# Altium schematic symbol library THD Connectors.SchLib: 115 symbols
Pins are listed as number, name and electrical type; pins without a type are passive.

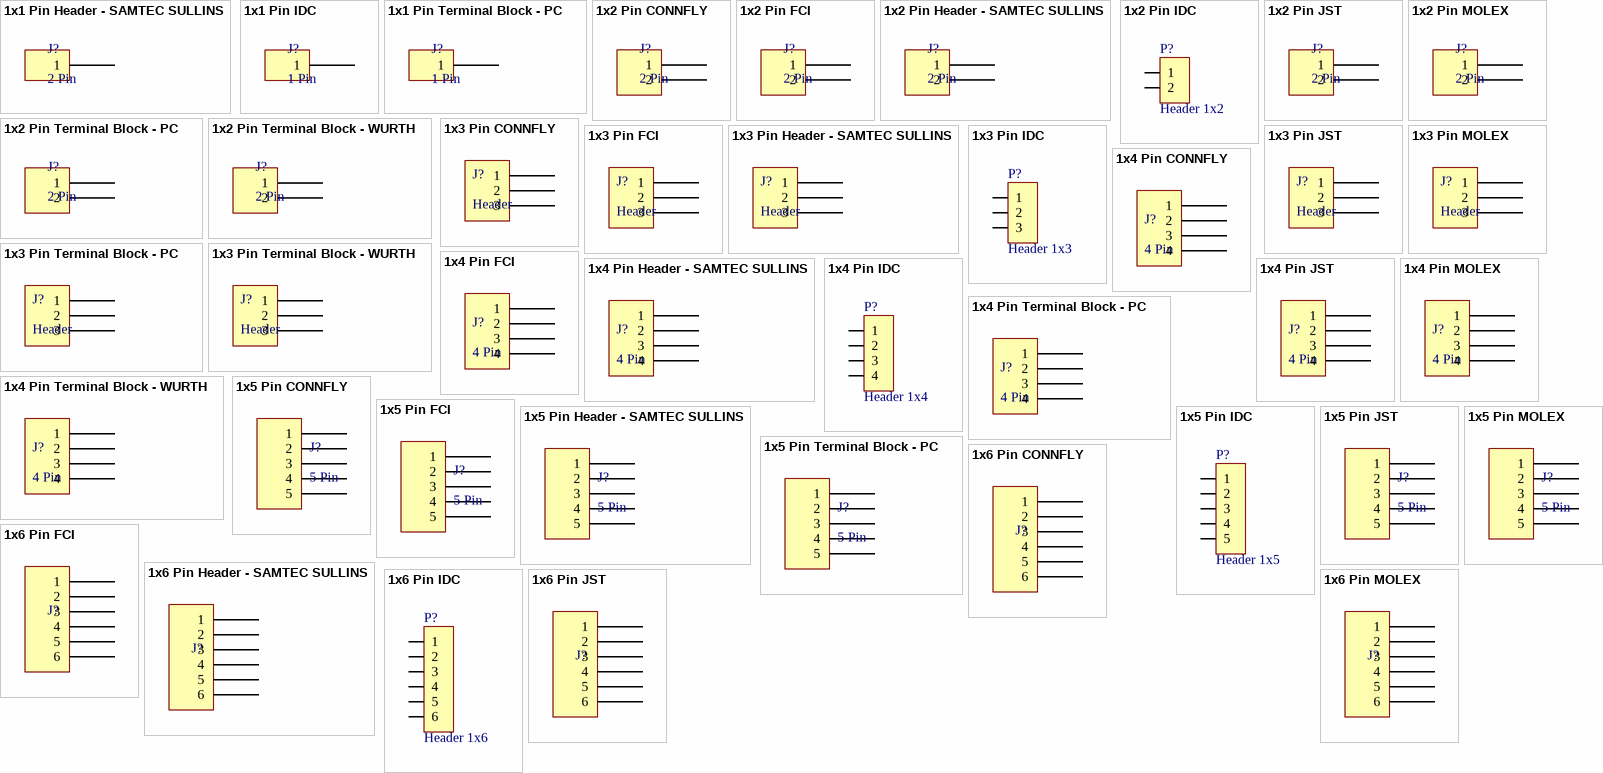
[diagram p0: symbols 1x1 Pin Header - SAMTEC SULLINS to 1x6 Pin MOLEX]

## 1x1 Pin Header - SAMTEC SULLINS
designator J?, comment 2 Pin
footprint SAMTEC SSW-101-03-T-S
pins: 1

## 1x1 Pin IDC
designator J?, comment 1 Pin
footprint HDR1X1 (Connector; Header; 2 Position)
pins: 1

## 1x1 Pin Terminal Block - PC
designator J?, comment 1 Pin
footprint PC 3.5mm PITCH MKDSN-01RMI (Phoenix Contact 3.5mm)
footprint PC 5.08mm PITCH MKDSN-01RMI (Phoenix Contact 5.08mm)
pins: 1

## 1x2 Pin CONNFLY
designator J?, comment 2 Pin
footprint CONNFLY DS1070-2 (connfly electronic CO,.LTD.)
footprint CONNFLY DS1070-2R (connfly electronic CO,.LTD.)
footprint CONNFLY DS1072-2 (connfly electronic CO,.LTD.)
footprint CONNFLY DS1072-2R (connfly electronic CO,.LTD.)
pins: 1, 2

## 1x2 Pin FCI
designator J?, comment 2 Pin
footprint FCI 06-381-2PIN (FCI Pluggable Terminal Block)
pins: 1, 2

## 1x2 Pin Header - SAMTEC SULLINS
designator J?, comment 2 Pin
footprint SAMTEC SSW-102-03-T-S
pins: 1, 2

## 1x2 Pin IDC
designator P?, comment Header 1x2
footprint HDR1X2 (Connector; Header; 2 Position)
footprint HDRS1X2 (Connector; Socket Header; 2 Position)
pins: 1, 2

## 1x2 Pin JST
designator J?, comment 2 Pin
footprint JST B2B-PH-K
footprint JST XH B2B-XH-A
pins: 1, 2

## 1x2 Pin MOLEX
designator J?, comment 2 Pin
footprint MOLEX KK 0022272021
footprint MOLEX SDA-70553-2PIN (SL Right angle header with latch, 0.100 centres, SDA-70553)
footprint MOLEX SDA-70555-2PIN (SL Right Angle Header W/LAtch & Trip-Pegs 2.54mm Centres)
pins: 1, 2

## 1x2 Pin Terminal Block - PC
designator J?, comment 2 Pin
footprint PC 3.5mm PITCH MKDSN-02RMI (Phoenix Contact 3.5mm)
footprint PC 5.08mm PITCH MKDSN-02RMI (Phoenix Contact 5.08mm)
footprint WURTH 6913115-2
pins: 1, 2

## 1x2 Pin Terminal Block - WURTH
designator J?, comment 2 Pin
footprint WURTH 6913115-2
pins: 1, 2

## 1x3 Pin CONNFLY
designator J?, comment Header
footprint CONNFLY DS1070-3 (Connector; Header; 3 Position)
footprint CONNFLY DS1070-3R (Connector; Header; 3 Position)
footprint CONNFLY DS1072-3 (connfly electronic CO,.LTD.)
footprint CONNFLY DS1070-3R (Connector; Header; 3 Position)
pins: 1, 2, 3

## 1x3 Pin FCI
designator J?, comment Header
footprint FCI 06-381-3PIN (FCI Pluggable Terminal Block)
pins: 1, 2, 3

## 1x3 Pin Header - SAMTEC SULLINS
designator J?, comment Header
footprint SAMTEC SSW-103-03-T-S
footprint SULLINS NPPN031BFCN
pins: 1, 2, 3

## 1x3 Pin IDC
designator P?, comment Header 1x3
footprint HDR1X3 (Connector; Header; 3 Position)
footprint HDRS1X3 (Connector; Socket Header; 3 Position)
pins: 1, 2, 3

## 1x3 Pin JST
designator J?, comment Header
footprint JST B3B-PH-K
footprint JST XH B3B-XH-A
pins: 1, 2, 3

## 1x3 Pin MOLEX
designator J?, comment Header
footprint MOLEX KK 0022272031
footprint MOLEX SDA-70553-3PIN (SL Right Angle Header W/LAtch & Trip-Pegs 2.54mm Centres)
footprint MOLEX SDA-70555-3PIN (SL Right Angle Header W/LAtch & Trip-Pegs 2.54mm Centres)
pins: 1, 2, 3

## 1x3 Pin Terminal Block - PC
designator J?, comment Header
footprint PC 3.5mm PITCH MKDSN-03RMI (Phoenix Contact 3.5mm)
footprint PC 5.08mm PITCH MKDSN-03RMI (Phoenix Contact 5.08)
footprint WURTH 6913115-3
pins: 1, 2, 3

## 1x3 Pin Terminal Block - WURTH
designator J?, comment Header
footprint WURTH 6913115-3
pins: 1, 2, 3

## 1x4 Pin CONNFLY
designator J?, comment 4 Pin
footprint CONNFLY DS1070-4 (Connector; Header; 4 Position)
footprint CONNFLY DS1070-4R (Connector; Header; 4 Position)
footprint CONNFLY DS1072-4 (connfly electronic CO,.LTD.)
footprint CONNFLY DS1072-4R (connfly electronic CO,.LTD.)
pins: 1, 2, 3, 4

## 1x4 Pin FCI
designator J?, comment 4 Pin
footprint FCI 06-381-4PIN (FCI Pluggable Terminal Block)
pins: 1, 2, 3, 4

## 1x4 Pin Header - SAMTEC SULLINS
designator J?, comment 4 Pin
footprint SAMTEC SSW-104-03-T-S
footprint SULLINS NPPN041BFCN
pins: 1, 2, 3, 4

## 1x4 Pin IDC
designator P?, comment Header 1x4
footprint HDR1X4 (Connector; Header; 4 Position)
footprint HDRS1X4 (Connector; Socket Header; 4 Position)
pins: 1, 2, 3, 4

## 1x4 Pin JST
designator J?, comment 4 Pin
footprint JST B4B-PH-K
footprint JST XH B4B-XH-A
pins: 1, 2, 3, 4

## 1x4 Pin MOLEX
designator J?, comment 4 Pin
footprint MOLEX KK 0022272041
footprint MOLEX SDA-70553-4PIN (SL Right Angle Header W/LAtch & Trip-Pegs 2.54mm Centres)
footprint MOLEX SDA-70555-4PIN (SL Right Angle Header W/LAtch & Trip-Pegs 2.54mm Centres)
pins: 1, 2, 3, 4

## 1x4 Pin Terminal Block - PC
designator J?, comment 4 Pin
footprint PC 3.5mm PITCH MKDSN-04RMI (Phoenix Contact 3.5mm)
footprint PC 5.08mm PITCH MKDSN-04RMI (Phoenix Contact 5.08)
footprint WURTH 6913115-4
pins: 1, 2, 3, 4

## 1x4 Pin Terminal Block - WURTH
designator J?, comment 4 Pin
footprint WURTH 6913115-4
pins: 1, 2, 3, 4

## 1x5 Pin CONNFLY
designator J?, comment 5 Pin
footprint CONNFLY DS1072-5 (connfly electronic CO,.LTD.)
footprint CONNFLY DS1072-5R (connfly electronic CO,.LTD.)
pins: 1, 2, 3, 4, 5

## 1x5 Pin FCI
designator J?, comment 5 Pin
footprint FCI 06-381-5PIN (FCI Pluggable Terminal Block)
pins: 1, 2, 3, 4, 5

## 1x5 Pin Header - SAMTEC SULLINS
designator J?, comment 5 Pin
footprint SAMTEC SSW-105-03-T-S
footprint SULLINS NPPN051BFCN
pins: 1, 2, 3, 4, 5

## 1x5 Pin IDC
designator P?, comment Header 1x5
footprint HDR1X5 (Connector; Header; 5 Position)
footprint HDRS1X5 (Connector; Socket Header; 6 Position)
pins: 1, 2, 3, 4, 5

## 1x5 Pin JST
designator J?, comment 5 Pin
footprint JST B5B-PH-K
footprint JST XH B5B-XH-A
pins: 1, 2, 3, 4, 5

## 1x5 Pin MOLEX
designator J?, comment 5 Pin
footprint MOLEX KK 0022272051
footprint MOLEX SDA-70553-5PIN (SL Right angle header with latch, 0.100 centres, SDA-70553)
footprint MOLEX SDA-70555-5PIN (SL Right Angle Header W/LAtch & Trip-Pegs 2.54mm Centres)
pins: 1, 2, 3, 4, 5

## 1x5 Pin Terminal Block - PC
designator J?, comment 5 Pin
footprint PC 3.5mm PITCH MKDSN-05RMI (Phoenix Contact 3.5mm)
footprint PC 5.08mm PITCH MKDSN-05RMI (Phoenix Contact 5.08)
pins: 1, 2, 3, 4, 5

## 1x6 Pin CONNFLY
designator J?
footprint CONNFLY DS1072-6 (connfly electronic CO,.LTD.)
footprint CONNFLY DS1072-6R (connfly electronic CO,.LTD.)
pins: 1, 2, 3, 4, 5, 6

## 1x6 Pin FCI
designator J?
footprint FCI 06-381-6PIN (FCI Pluggable Terminal Block)
pins: 1, 2, 3, 4, 5, 6

## 1x6 Pin Header - SAMTEC SULLINS
designator J?
footprint SAMTEC SSW-106-03-T-S
footprint SULLINS NPPN061BFCN
pins: 1, 2, 3, 4, 5, 6

## 1x6 Pin IDC
designator P?, comment Header 1x6
footprint HDR1X6 (Connector; Header; 6 Position)
footprint HDRS1X6 (Connector; Socket Header; 6 Position)
pins: 1, 2, 3, 4, 5, 6

## 1x6 Pin JST
designator J?
footprint JST B6B-PH-K
footprint JST XH B6B-XH-A
pins: 1, 2, 3, 4, 5, 6

## 1x6 Pin MOLEX
designator J?
footprint MOLEX KK 0022272061
footprint MOLEX SDA-70553-6PIN (SL Right angle header with latch, 0.100 centres, SDA-70553)
footprint MOLEX SDA-70555-6PIN (SL Right Angle Header W/LAtch & Trip-Pegs 2.54mm Centres)
pins: 1, 2, 3, 4, 5, 6

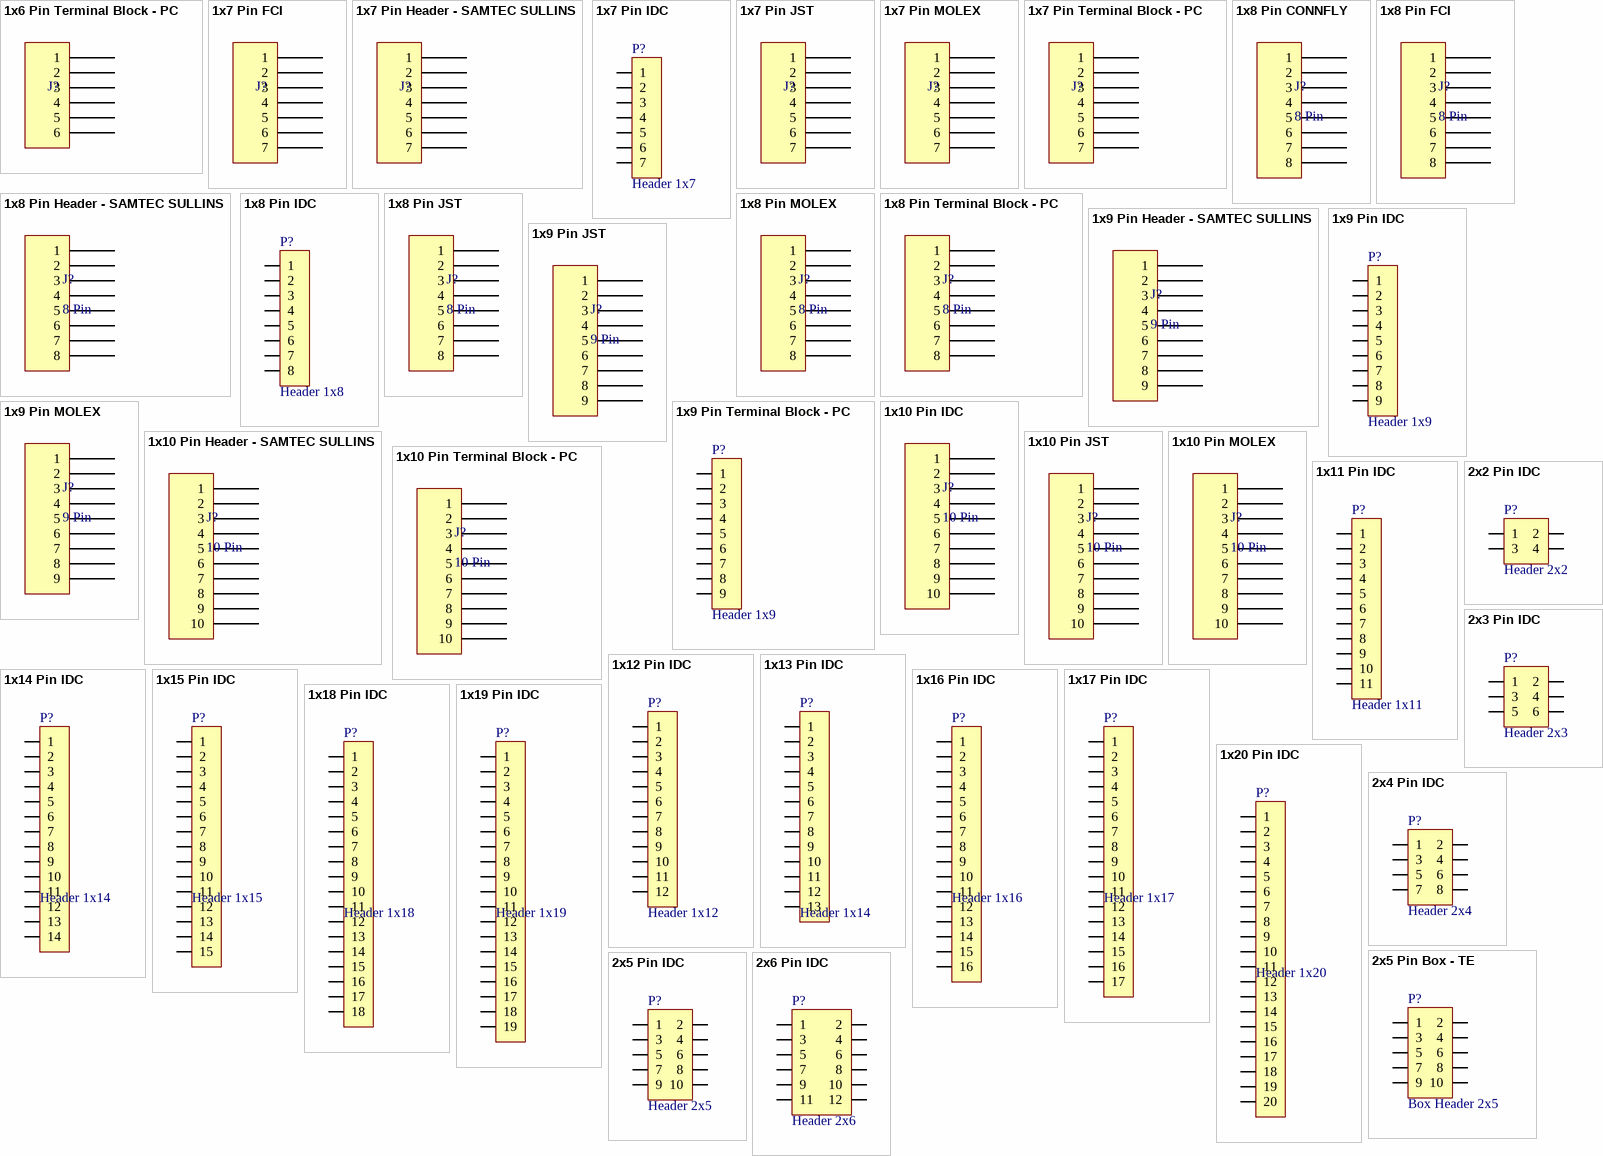
[diagram p1: symbols 1x6 Pin Terminal Block - PC to 2x6 Pin IDC]

## 1x6 Pin Terminal Block - PC
designator J?
footprint PC 3.5mm PITCH MKDSN-06RMI (Phoenix Contact 3.5mm)
footprint PC 5.08mm PITCH MKDSN-06RMI (Phoenix Contact 5.08)
pins: 1, 2, 3, 4, 5, 6

## 1x7 Pin FCI
designator J?
footprint FCI 06-381-7PIN (FCI Pluggable Terminal Block)
pins: 1, 2, 3, 4, 5, 6, 7

## 1x7 Pin Header - SAMTEC SULLINS
designator J?
footprint SAMTEC SSW-107-03-T-S
footprint SULLINS NPPN071BFCN
pins: 1, 2, 3, 4, 5, 6, 7

## 1x7 Pin IDC
designator P?, comment Header 1x7
footprint HDR1X7 (Connector; Header; 7 Position)
footprint HDRS1X7 (Connector; Socket Header; 7 Position)
pins: 1, 2, 3, 4, 5, 6, 7

## 1x7 Pin JST
designator J?
footprint JST B7B-PH-K
footprint JST XH B7B-XH-A
pins: 1, 2, 3, 4, 5, 6, 7

## 1x7 Pin MOLEX
designator J?
footprint MOLEX KK 0022272071
footprint MOLEX SDA-70553-7PIN (SL Right angle header with latch, 0.100 centres, SDA-70553)
footprint MOLEX SDA-70555-7PIN (SL Right Angle Header W/LAtch & Trip-Pegs 2.54mm Centres)
pins: 1, 2, 3, 4, 5, 6, 7

## 1x7 Pin Terminal Block - PC
designator J?
footprint PC 3.5mm PITCH MKDSN-07RMI (Phoenix Contact 3.5mm)
footprint PC 5.08mm PITCH MKDSN-07RMI (Phoenix Contact 5.08)
pins: 1, 2, 3, 4, 5, 6, 7

## 1x8 Pin CONNFLY
designator J?, comment 8 Pin
footprint CONNFLY DS1070-8
footprint CONNFLY DS1070-8R
pins: 1, 2, 3, 4, 5, 6, 7, 8

## 1x8 Pin FCI
designator J?, comment 8 Pin
footprint FCI 06-381-8PIN (FCI Pluggable Terminal Block)
pins: 1, 2, 3, 4, 5, 6, 7, 8

## 1x8 Pin Header - SAMTEC SULLINS
designator J?, comment 8 Pin
footprint SAMTEC SSW-108-03-T-S
footprint SULLINS NPPN081BFCN
pins: 1, 2, 3, 4, 5, 6, 7, 8

## 1x8 Pin IDC
designator P?, comment Header 1x8
LatestRevisionDate: 17-Jul-2002; LatestRevisionNote: Re-released for DXP Platform.; Publisher: Altium Limited
footprint HDR1X8 (Connector; Header; 8 Position)
footprint HDRS1X8 (Connector; Socket Header; 8 Position)
pins: 1, 2, 3, 4, 5, 6, 7, 8

## 1x8 Pin JST
designator J?, comment 8 Pin
footprint JST B8B-PH-K
footprint JST XH B8B-XH-A
pins: 1, 2, 3, 4, 5, 6, 7, 8

## 1x8 Pin MOLEX
designator J?, comment 8 Pin
footprint MOLEX KK 0022272081
footprint MOLEX SDA-70553-8PIN (SL Right angle header with latch, 0.100 centres, SDA-70553)
footprint MOLEX SDA-70555-8PIN (SL Right Angle Header W/LAtch & Trip-Pegs 2.54mm Centres)
pins: 1, 2, 3, 4, 5, 6, 7, 8

## 1x8 Pin Terminal Block - PC
designator J?, comment 8 Pin
footprint PC 3.5mm PITCH MKDSN-08RMI (Phoenix Contact 3.5mm)
footprint PC 5.08mm PITCH MKDSN-08RMI (Phoenix Contact 5.08)
pins: 1, 2, 3, 4, 5, 6, 7, 8

## 1x9 Pin Header - SAMTEC SULLINS
designator J?, comment 9 Pin
footprint SAMTEC SSW-109-03-T-S
footprint SULLINS NPPN091BFCN
pins: 1, 2, 3, 4, 5, 6, 7, 8, 9

## 1x9 Pin IDC
designator P?, comment Header 1x9
footprint HDR1X9 (Connector; Header; 9 Position)
footprint HDRS1X9 (Connector; Socket Header; 9 Position)
pins: 1, 2, 3, 4, 5, 6, 7, 8, 9

## 1x9 Pin JST
designator J?, comment 9 Pin
footprint JST B9B-PH-K
footprint JST XH B9B-XH-A
pins: 1, 2, 3, 4, 5, 6, 7, 8, 9

## 1x9 Pin MOLEX
designator J?, comment 9 Pin
footprint MOLEX KK 0022272091
pins: 1, 2, 3, 4, 5, 6, 7, 8, 9

## 1x9 Pin Terminal Block - PC
designator P?, comment Header 1x9
footprint PC 3.5mm PITCH MKDSN-09RMI (Phoenix Contact 3.5mm)
footprint PC 5.08mm PITCH MKDSN-09RMI (Phoenix Contact 5.08)
pins: 1, 2, 3, 4, 5, 6, 7, 8, 9

## 1x10 Pin Header - SAMTEC SULLINS
designator J?, comment 10 Pin
footprint SAMTEC SSW-110-03-T-S
footprint SULLINS NPPN101BFCN
pins: 1, 2, 3, 4, 5, 6, 7, 8, 9, 10

## 1x10 Pin IDC
designator J?, comment 10 Pin
footprint HDR1X10 (Connector; Header; 10 Position)
footprint HDRS1X10 (Connector; Socket Header; 10 Position)
pins: 1, 2, 3, 4, 5, 6, 7, 8, 9, 10

## 1x10 Pin JST
designator J?, comment 10 Pin
footprint JST B10B-PH-K
footprint JST XH B10B-XH-A
pins: 1, 2, 3, 4, 5, 6, 7, 8, 9, 10

## 1x10 Pin MOLEX
designator J?, comment 10 Pin
footprint MOLEX KK 0022272101
pins: 1, 2, 3, 4, 5, 6, 7, 8, 9, 10

## 1x10 Pin Terminal Block - PC
designator J?, comment 10 Pin
footprint PC 3.5mm PITCH MKDSN-10RMI (Phoenix Contact 3.5mm)
footprint PC 5.08mm PITCH MKDSN-10RMI (Phoenix Contact 5.08)
pins: 1, 2, 3, 4, 5, 6, 7, 8, 9, 10

## 1x11 Pin IDC
designator P?, comment Header 1x11
footprint HDR1X11 (Connector; Header; 11 Position)
footprint HDRS1X11 (Connector; Socket Header; 11 Position)
pins: 1, 2, 3, 4, 5, 6, 7, 8, 9, 10, 11

## 1x12 Pin IDC
designator P?, comment Header 1x12
footprint HDR1X12 (Connector; Header; 12 Position)
footprint HDRS1X12 (Connector; Socket Header; 12 Position)
pins: 1, 2, 3, 4, 5, 6, 7, 8, 9, 10, 11, 12

## 1x13 Pin IDC
designator P?, comment Header 1x14
footprint HDR1X13 (Connector; Header; 13 Position)
footprint HDRS1X13 (Connector; Socket Header; 13 Position)
pins: 1, 2, 3, 4, 5, 6, 7, 8, 9, 10, 11, 12, 13

## 1x14 Pin IDC
designator P?, comment Header 1x14
footprint HDR1X14 (Connector; Header; 14 Position)
footprint HDRS1X14 (Connector; Socket Header; 14 Position)
pins: 1, 2, 3, 4, 5, 6, 7, 8, 9, 10, 11, 12, 13, 14

## 1x15 Pin IDC
designator P?, comment Header 1x15
footprint HDR1X15 (Connector; Header; 15 Position)
footprint HDRS1X15 (Connector; Socket Header; 15 Position)
pins: 1, 2, 3, 4, 5, 6, 7, 8, 9, 10, 11, 12, 13, 14, 15

## 1x16 Pin IDC
designator P?, comment Header 1x16
footprint HDR1X16 (Connector; Header; 16 Position)
footprint HDRS1X16 (Connector; Socket Header; 16 Position)
pins: 1, 2, 3, 4, 5, 6, 7, 8, 9, 10, 11, 12, 13, 14, 15, 16

## 1x17 Pin IDC
designator P?, comment Header 1x17
footprint HDR1X17 (Connector; Header; 17 Position)
footprint HDRS1X17 (Connector; Socket Header; 17 Position)
pins: 1, 2, 3, 4, 5, 6, 7, 8, 9, 10, 11, 12, 13, 14, 15, 16, 17

## 1x18 Pin IDC
designator P?, comment Header 1x18
footprint HDR1X18 (Connector; Header; 18 Position)
footprint HDRS1X18 (Connector; Socket Header; 18 Position)
pins: 1, 2, 3, 4, 5, 6, 7, 8, 9, 10, 11, 12, 13, 14, 15, 16, 17, 18

## 1x19 Pin IDC
designator P?, comment Header 1x19
footprint HDR1X19 (Connector; Header; 19 Position)
footprint HDRS1X19 (Connector; Socket Header; 19 Position)
pins: 1, 2, 3, 4, 5, 6, 7, 8, 9, 10, 11, 12, 13, 14, 15, 16, 17, 18, 19

## 1x20 Pin IDC
designator P?, comment Header 1x20
footprint HDR1X20 (Connector; Header; 20 Position)
footprint HDRS1X20 (Connector; Socket Header; 20 Position)
pins: 1, 2, 3, 4, 5, 6, 7, 8, 9, 10, 11, 12, 13, 14, 15, 16, 17, 18, 19, 20

## 2x2 Pin IDC
designator P?, comment Header 2x2
footprint HDR2X2 (Connector; Header; 2x2 Position)
footprint HDRS2X2 (Connector; Socket Header; 2x2 Position)
pins: 1, 2, 3, 4

## 2x3 Pin IDC
designator P?, comment Header 2x3
footprint HDR2X3 (Connector; Header; 2x3 Position)
footprint HDRS2X3 (Connector; Socket Header; 2x3 Position)
pins: 1, 2, 3, 4, 5, 6

## 2x4 Pin IDC
designator P?, comment Header 2x4
footprint HDR2X4 (Connector; Header; 2x4 Position)
footprint HDRS2X4 (Connector; Socket Header; 2x4 Position)
pins: 1, 2, 3, 4, 5, 6, 7, 8

## 2x5 Pin Box - TE
designator P?, comment Box Header 2x5
footprint HDR2X5-BOX (Connector; Header; 2x5 Position Box Receptacle)
pins: 1, 2, 3, 4, 5, 6, 7, 8, 9, 10

## 2x5 Pin IDC
designator P?, comment Header 2x5
footprint HDR2X5 (Connector; Header; 2x5 Position)
footprint HDRS2X5 (Connector; Socket Header; 2x5 Position)
pins: 1, 2, 3, 4, 5, 6, 7, 8, 9, 10

## 2x6 Pin IDC
designator P?, comment Header 2x6
footprint HDR2X6 (Connector; Header; 2x6 Position)
footprint HDRS2X6 (Connector; Socket Header; 2x6 Position)
pins: 1, 2, 3, 4, 5, 6, 7, 8, 9, 10, 11, 12

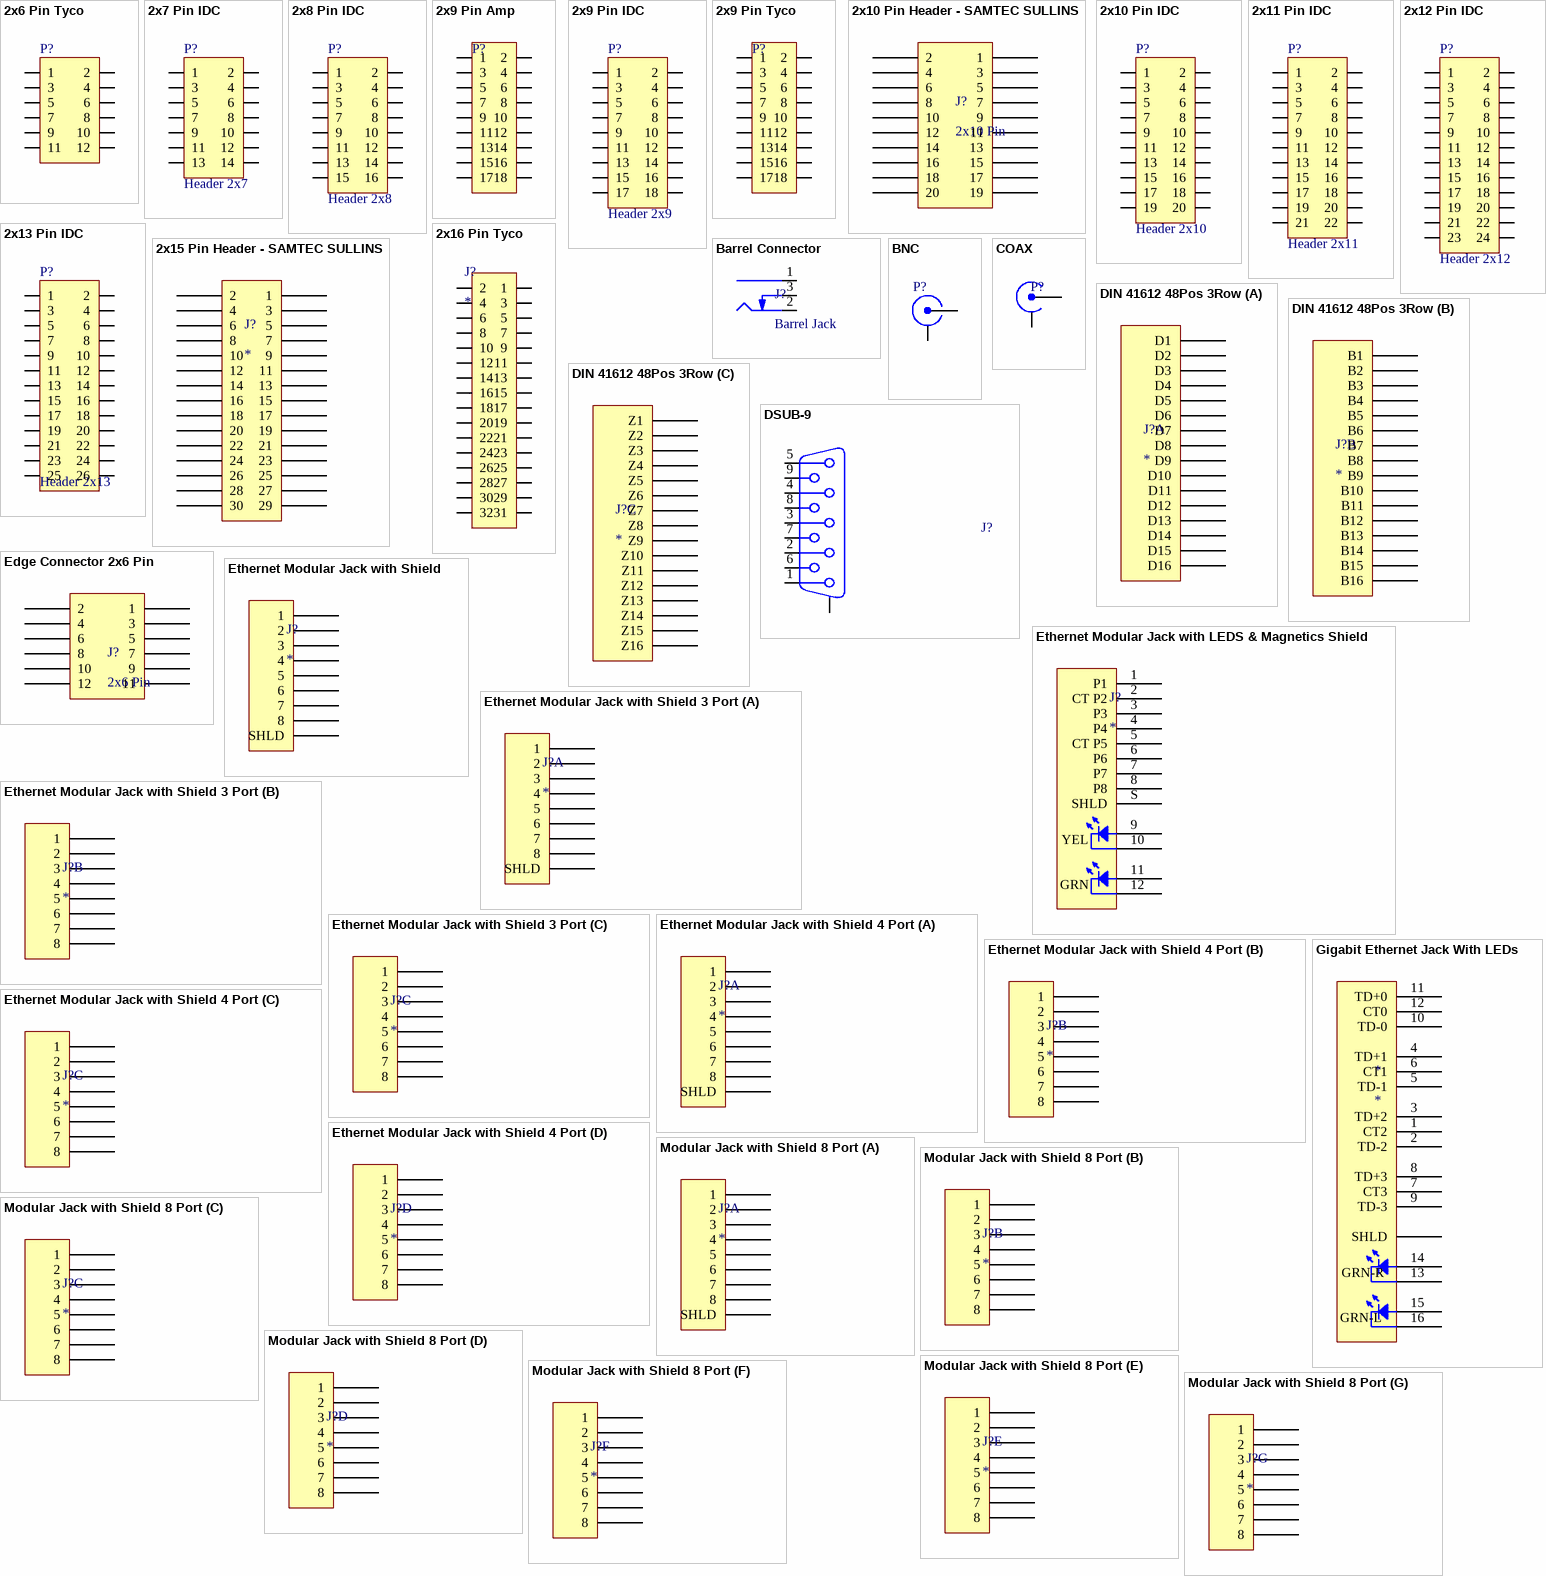
[diagram p2: symbols 2x6 Pin Tyco to Modular Jack with Shield 8 Port]

## 2x6 Pin Tyco
designator P?
footprint TE 967646-1 (Tyco 967646-1 Black)
pins: 1, 2, 3, 4, 5, 6, 7, 8, 9, 10, 11, 12

## 2x7 Pin IDC
designator P?, comment Header 2x7
footprint HDR2X7 (Connector; Header; 2x7 Position)
footprint HDRS2X7 (Connector; Socket Header; 2x7 Position)
pins: 1, 2, 3, 4, 5, 6, 7, 8, 9, 10, 11, 12, 13, 14

## 2x8 Pin IDC
designator P?, comment Header 2x8
footprint HDR2X8 (Connector; Header; 2x8 Position)
footprint HDRS2X8 (Connector; Socket Header; 2x8 Position)
pins: 1, 2, 3, 4, 5, 6, 7, 8, 9, 10, 11, 12, 13, 14, 15, 16

## 2x9 Pin Amp
designator P?
footprint AMP 953466-1
pins: 1, 2, 3, 4, 5, 6, 7, 8, 9, 10, 11, 12, 13, 14, 15, 16, 17, 18

## 2x9 Pin IDC
designator P?, comment Header 2x9
footprint HDR2X9 (Connector; Header; 2x9 Position)
footprint HDRS2X9 (Connector; Socket Header; 2x9 Position)
pins: 1, 2, 3, 4, 5, 6, 7, 8, 9, 10, 11, 12, 13, 14, 15, 16, 17, 18

## 2x9 Pin Tyco
designator P?
footprint TE 953264-2 (Tyco 953264-2 Black)
pins: 1, 2, 3, 4, 5, 6, 7, 8, 9, 10, 11, 12, 13, 14, 15, 16, 17, 18

## 2x10 Pin Header - SAMTEC SULLINS
designator J?, comment 2x10 Pin
footprint SULLINS SBH11-NBPC-D10-ST-BK
pins: 1, 2, 3, 4, 5, 6, 7, 8, 9, 10, 11, 12, 13, 14, 15, 16, 17, 18, 19, 20

## 2x10 Pin IDC
designator P?, comment Header 2x10
footprint HDR2X10 (Connector; Header; 10x2 Position)
footprint HDRS2X10 (Connector; Socket Header; 2x10 Position)
pins: 1, 2, 3, 4, 5, 6, 7, 8, 9, 10, 11, 12, 13, 14, 15, 16, 17, 18, 19, 20

## 2x11 Pin IDC
designator P?, comment Header 2x11
footprint HDR2X11 (Connector; Header; 2x11 Position)
footprint HDRS2X11 (Connector; Socket Header; 2x11 Position)
pins: 1, 2, 3, 4, 5, 6, 7, 8, 9, 10, 11, 12, 13, 14, 15, 16, 17, 18, 19, 20, 21, 22

## 2x12 Pin IDC
designator P?, comment Header 2x12
footprint HDR2X12 (Connector; Header; 12x2 Position)
footprint HDRS2X12 (Connector; Socket Header; 2x12 Position)
pins: 1, 2, 3, 4, 5, 6, 7, 8, 9, 10, 11, 12, 13, 14, 15, 16, 17, 18, 19, 20, 21, 22, 23, 24

## 2x13 Pin IDC
designator P?, comment Header 2x13
footprint HDR2X13 (Connector; Header; 13x2 Position)
footprint HDRS2X13 (Connector; Socket Header; 2x13 Position)
pins: 1, 2, 3, 4, 5, 6, 7, 8, 9, 10, 11, 12, 13, 14, 15, 16, 17, 18, 19, 20, 21, 22, 23, 24, 25, 26

## 2x15 Pin Header - SAMTEC SULLINS
designator J?
footprint Samtec SSQ-115-03-T-D
pins: 1, 2, 3, 4, 5, 6, 7, 8, 9, 10, 11, 12, 13, 14, 15, 16, 17, 18, 19, 20, 21, 22, 23, 24, 25, 26, 27, 28, 29, 30

## 2x16 Pin Tyco
designator J?
footprint TE 967598-1 (Tyco 967598-1 Grey)
footprint TE 967598-4 (Tyco 967598-4 Blue)
pins: 1, 2, 3, 4, 5, 6, 7, 8, 9, 10, 11, 12, 13, 14, 15, 16, 17, 18, 19, 20, 21, 22, 23, 24, 25, 26, 27, 28, 29, 30, 31, 32

## Barrel Connector
designator J?, comment Barrel Jack
footprint CUI PJ-014D
footprint CUI PJ-040D
footprint CUI PJ-068B-SMT (Mid Mount DC Power Jack)
footprint CUI PJ-069B-SMT (Mid Mount DC Power Jack)
footprint CUI PJ-102AH (DC Barrel Jack W/ Switch 2.0x5.5)
pins: 1 Centre, 2 Outer, 3 SW

## BNC
designator P?
BNC Elbow Connector; Manufacturer: Generic Components; SubClass: RF Coaxial; Class: Connector
signal-integrity model Connector
footprint AMPHENOL 277161-2
pins: 1 X, 2 Y

## COAX
designator P?
Coax Connector; Manufacturer: Generic Components; Class: Connector
signal-integrity model Connector
footprint AMPHENOL 031_5329_51rfx
pins: 1 X, 2 Y

## DIN 41612 48Pos 3Row
designator J?
footprint HARTING 09061486901
part A pins: D1, D2, D3, D4, D5, D6, D7, D8, D9, D10, D11, D12, D13, D14, D15, D16
part B pins: B1, B2, B3, B4, B5, B6, B7, B8, B9, B10, B11, B12, B13, B14, B15, B16
part C pins: Z1, Z2, Z3, Z4, Z5, Z6, Z7, Z8, Z9, Z10, Z11, Z12, Z13, Z14, Z15, Z16

## DSUB-9
designator J?
PackageDocument: O; Positions: 9; Gender: Receptacle; Published: 15-Jun-2001; LatestRevisionDate: 17-Jul-2002; LatestRevisionNote: Re-released for DXP Platform.; DatasheetDocument: 1-Sep-1999; PackageReference: 788750; Publisher: Altium Limited; Orientation: Right Angle
signal-integrity model Connector
footprint ASSMANN DSUB-9F A-DF_09_A_KG-T2 (Connector; D Subminiature; 9 Position; Right Angle; Pitch 1.385 mm)
footprint TE DSUB-9M 5747840-6 (Connector; D Subminiature; 9 Position; Right Angle; Pitch 1.385 mm)
pins: 1, 2, 3, 4, 5, 6, 7, 8, 9, S MH1

## Edge Connector 2x6 Pin
designator J?, comment 2x6 Pin
footprint TE 5650118-3
pins: 1, 2, 3, 4, 5, 6, 7, 8, 9, 10, 11, 12

## Ethernet Modular Jack with LEDS & Magnetics Shield
designator J?
footprint Abracon ARJC02-111008B
pins: 1 P1, 2 CT P2, 3 P3, 4 P4, 5 CT P5, 6 P6, 7 P7, 8 P8, 9 P9, 10 P10, 11 P11, 12 P12, S SHLD
text: YEL; GRN

## Ethernet Modular Jack with Shield
designator J?
footprint ASSMANN A-2004-2-4-LP/FS
footprint ASSMANN A-2004-2-4-LPS-N-R
pins: 1, 2, 3, 4, 5, 6, 7, 8, S SHLD

## Ethernet Modular Jack with Shield 3 Port
designator J?
footprint AMPHENOL RJHSE-538X-03
part A pins: A1 1, A2 2, A3 3, A4 4, A5 5, A6 6, A7 7, A8 8, S SHLD
part B pins: B1 1, B2 2, B3 3, B4 4, B5 5, B6 6, B7 7, B8 8
part C pins: C1 1, C2 2, C3 3, C4 4, C5 5, C6 6, C7 7, C8 8

## Ethernet Modular Jack with Shield 4 Port
designator J?
footprint AMPHENOL RJHSE-5380-04
part A pins: A1 1, A2 2, A3 3, A4 4, A5 5, A6 6, A7 7, A8 8, S SHLD
part B pins: B1 1, B2 2, B3 3, B4 4, B5 5, B6 6, B7 7, B8 8
part C pins: C1 1, C2 2, C3 3, C4 4, C5 5, C6 6, C7 7, C8 8
part D pins: D1 1, D2 2, D3 3, D4 4, D5 5, D6 6, D7 7, D8 8

## Gigabit Ethernet Jack With LEDs
designator *
footprint Molex 857931001
pins: 1 CT2, 2 TD-2, 3 TD+2, 4 TD+1, 5 TD-1, 6 CT1, 7 CT3, 8 TD+3, 9 TD-3, 10 TD-0, 11 TD+0, 12 CT0, 13 P13, 14 P14, 15 P15, 16 P16, S SHLD
text: GRN-R; GRN-L

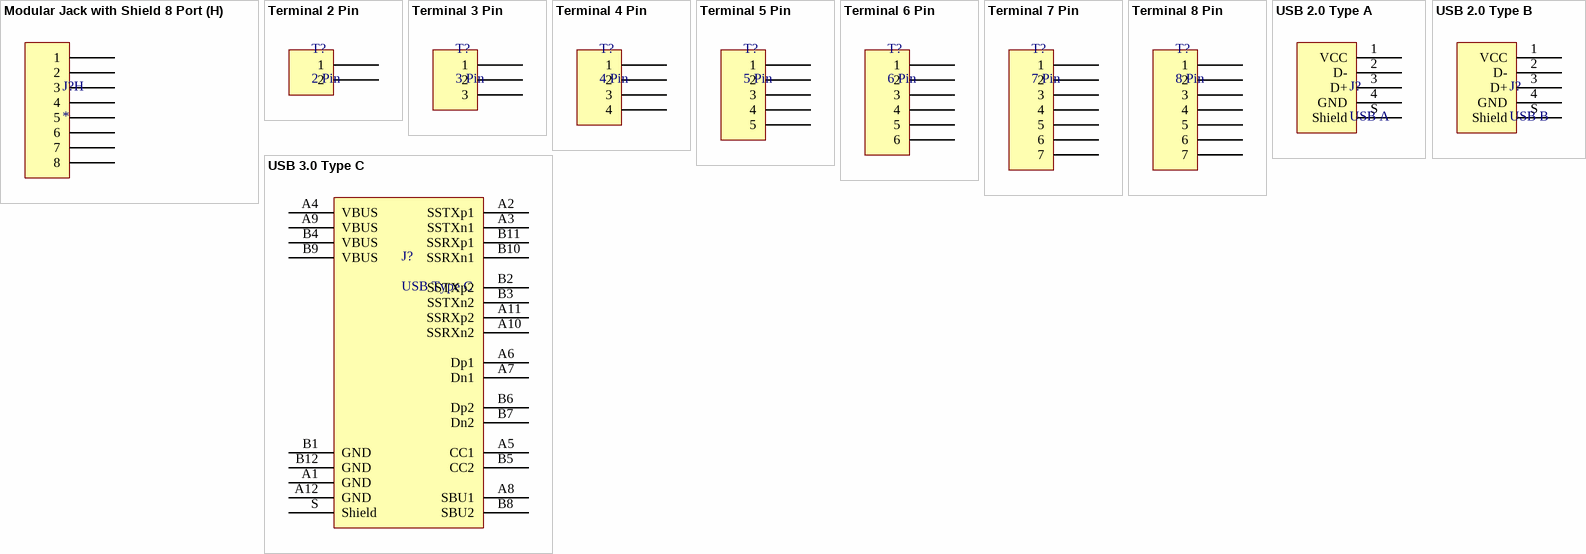
[diagram p3: symbols Modular Jack with Shield 8 Port to USB 3.0 Type C]

## Modular Jack with Shield 8 Port
designator J?
footprint TE 6339168-01-B
part A pins: A1 1, A2 2, A3 3, A4 4, A5 5, A6 6, A7 7, A8 8, S SHLD
part B pins: B1 1, B2 2, B3 3, B4 4, B5 5, B6 6, B7 7, B8 8
part C pins: C1 1, C2 2, C3 3, C4 4, C5 5, C6 6, C7 7, C8 8
part D pins: D1 1, D2 2, D3 3, D4 4, D5 5, D6 6, D7 7, D8 8
part E pins: E1 1, E2 2, E3 3, E4 4, E5 5, E6 6, E7 7, E8 8
part F pins: F1 1, F2 2, F3 3, F4 4, F5 5, F6 6, F7 7, F8 8
part G pins: G1 1, G2 2, G3 3, G4 4, G5 5, G6 6, G7 7, G8 8
part H pins: H1 1, H2 2, H3 3, H4 4, H5 5, H6 6, H7 7, H8 8

## Terminal 2 Pin
designator T?, comment 2 Pin
footprint TE 282834-2
footprint TE 4DB-P108-02 (Assembly, Dual Barrier 4DB P108)
footprint TE NC6-P108-02
pins: 1, 2

## Terminal 3 Pin
designator T?, comment 3 Pin
footprint TE 282834-3
footprint TE 4DB-P108-03 (Assembly, Dual Barrier 4DB P108)
footprint TE NC6-P108-03
pins: 1, 2, 3

## Terminal 4 Pin
designator T?, comment 4 Pin
footprint TE 282834-4
footprint TE 4DB-P108-04 (Assembly, Dual Barrier 4DB P108)
footprint TE NC6-P108-04
pins: 1, 2, 3, 4

## Terminal 5 Pin
designator T?, comment 5 Pin
footprint TE 282834-5
pins: 1, 2, 3, 4, 5

## Terminal 6 Pin
designator T?, comment 6 Pin
footprint TE 282834-6
pins: 1, 2, 3, 4, 5, 6

## Terminal 7 Pin
designator T?, comment 7 Pin
footprint TE 282834-7
pins: 1, 2, 3, 4, 5, 6, 7

## Terminal 8 Pin
designator T?, comment 8 Pin
footprint TE 282834-8
pins: 1, 2, 3, 4, 5, 6, 7

## USB 2.0 Type A
designator J?, comment USB A
footprint ASSMANN A-USBSA
pins: 1 VCC, 2 D-, 3 D+, 4 GND, S Shield

## USB 2.0 Type B
designator J?, comment USB B
footprint FCI USB 61729-0010BLF
footprint FCI USB 61729-1011BLF
pins: 1 VCC, 2 D-, 3 D+, 4 GND, S Shield

## USB 3.0 Type C
designator J?, comment USB Type C
footprint TE USB-C 2129691-1
pins: A1 GND, A2 SSTXp1, A3 SSTXn1, A4 VBUS, A5 CC1, A6 Dp1, A7 Dn1, A8 SBU1, A9 VBUS, A10 SSRXn2, A11 SSRXp2, A12 GND, B1 GND, B2 SSTXp2, B3 SSTXn2, B4 VBUS, B5 CC2, B6 Dp2, B7 Dn2, B8 SBU2, B9 VBUS, B10 SSRXn1, B11 SSRXp1, B12 GND, S Shield